# Altium schematic symbol library SCH - MCU - STM32 - ST MICROELECTRONICS STM32F767ZITX LQFP144.SchLib: 1 symbol
Pins are listed as number, name and electrical type; pins without a type are passive.

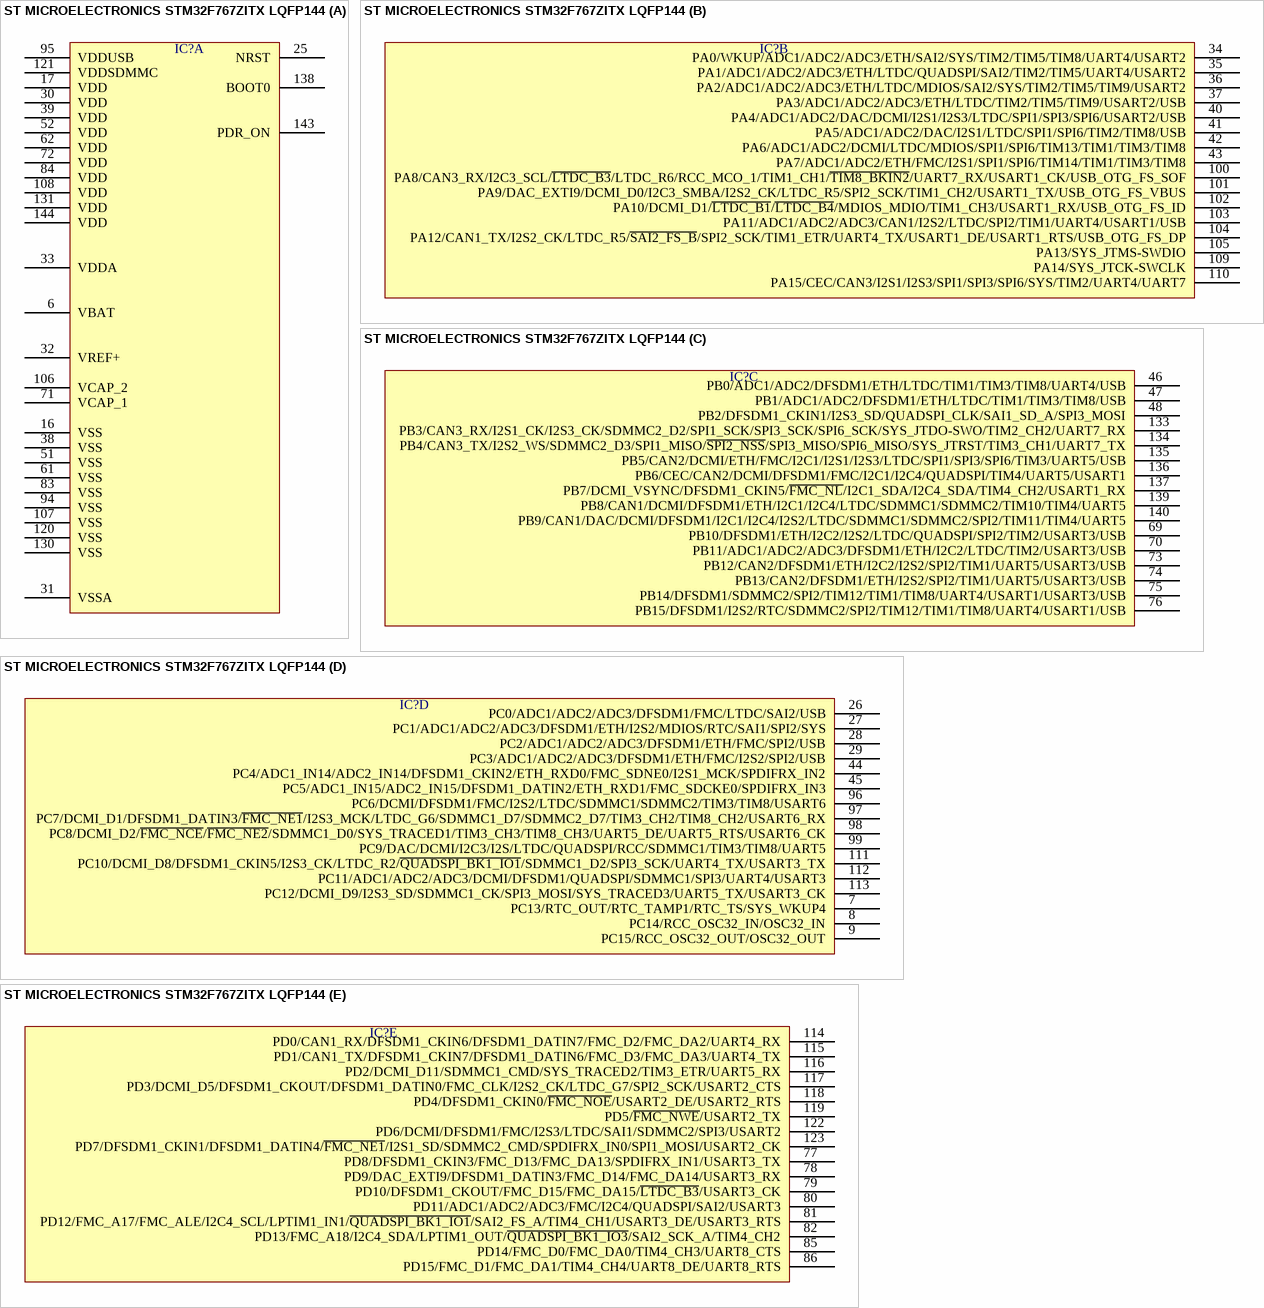
[diagram p0: symbol ST MICROELECTRONICS STM32F767ZITX LQFP144]

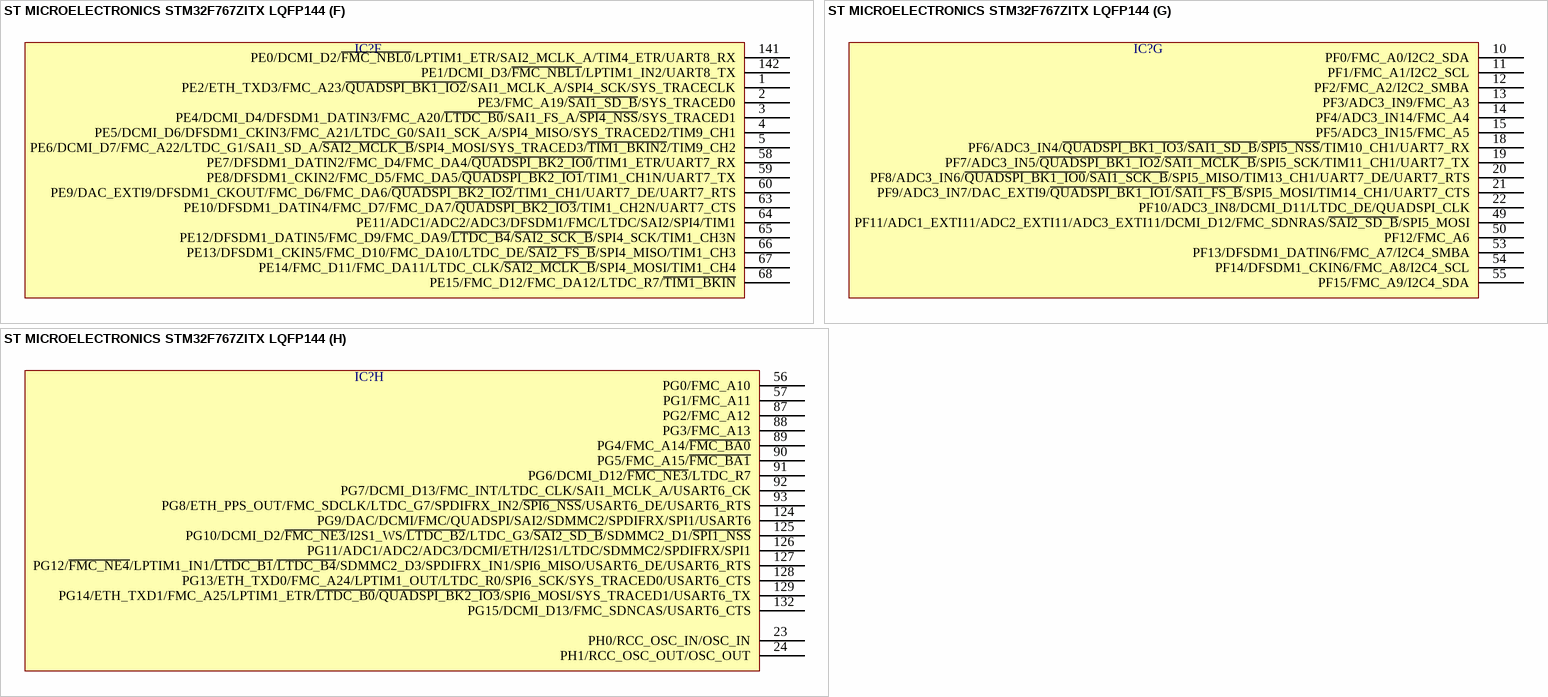
[diagram p1: symbol ST MICROELECTRONICS STM32F767ZITX LQFP144]

## ST MICROELECTRONICS STM32F767ZITX LQFP144
designator IC?  (value not drawn)
part A pins: 6 VBAT, 16 VSS, 17 VDD, 25 NRST, 30 VDD, 31 VSSA, 32 VREF+, 33 VDDA, 38 VSS, 39 VDD, 51 VSS, 52 VDD, 61 VSS, 62 VDD, 71 VCAP_1, 72 VDD, 83 VSS, 84 VDD, 94 VSS, 95 VDDUSB, 106 VCAP_2, 107 VSS, 108 VDD, 120 VSS, 121 VDDSDMMC, 130 VSS, 131 VDD, 138 BOOT0, 143 PDR_ON, 144 VDD
part B pins: 34 PA0/WKUP/ADC1/ADC2/ADC3/ETH/SAI2/SYS/TIM2/TIM5/TIM8/UART4/USART2, 35 PA1/ADC1/ADC2/ADC3/ETH/LTDC/QUADSPI/SAI2/TIM2/TIM5/UART4/USART2, 36 PA2/ADC1/ADC2/ADC3/ETH/LTDC/MDIOS/SAI2/SYS/TIM2/TIM5/TIM9/USART2, 37 PA3/ADC1/ADC2/ADC3/ETH/LTDC/TIM2/TIM5/TIM9/USART2/USB, 40 PA4/ADC1/ADC2/DAC/DCMI/I2S1/I2S3/LTDC/SPI1/SPI3/SPI6/USART2/USB, 41 PA5/ADC1/ADC2/DAC/I2S1/LTDC/SPI1/SPI6/TIM2/TIM8/USB, 42 PA6/ADC1/ADC2/DCMI/LTDC/MDIOS/SPI1/SPI6/TIM13/TIM1/TIM3/TIM8, 43 PA7/ADC1/ADC2/ETH/FMC/I2S1/SPI1/SPI6/TIM14/TIM1/TIM3/TIM8, 100 PA8/CAN3_RX/I2C3_SCL/~{LTDC_B3}/LTDC_R6/RCC_MCO_1/TIM1_CH1/~{TIM8_BKIN2}/UART7_RX/USART1_CK/USB_OTG_FS_SOF, 101 PA9/DAC_EXTI9/DCMI_D0/I2C3_SMBA/I2S2_CK/LTDC_R5/SPI2_SCK/TIM1_CH2/USART1_TX/USB_OTG_FS_VBUS, 102 PA10/DCMI_D1/~{LTDC_B1}/~{LTDC_B4}/MDIOS_MDIO/TIM1_CH3/USART1_RX/USB_OTG_FS_ID, 103 PA11/ADC1/ADC2/ADC3/CAN1/I2S2/LTDC/SPI2/TIM1/UART4/USART1/USB, 104 PA12/CAN1_TX/I2S2_CK/LTDC_R5/~{SAI2_FS_B}/SPI2_SCK/TIM1_ETR/UART4_TX/USART1_DE/USART1_RTS/USB_OTG_FS_DP, 105 PA13/SYS_JTMS-SWDIO, 109 PA14/SYS_JTCK-SWCLK, 110 PA15/CEC/CAN3/I2S1/I2S3/SPI1/SPI3/SPI6/SYS/TIM2/UART4/UART7
part C pins: 46 PB0/ADC1/ADC2/DFSDM1/ETH/LTDC/TIM1/TIM3/TIM8/UART4/USB, 47 PB1/ADC1/ADC2/DFSDM1/ETH/LTDC/TIM1/TIM3/TIM8/USB, 48 PB2/DFSDM1_CKIN1/I2S3_SD/QUADSPI_CLK/SAI1_SD_A/SPI3_MOSI, 69 PB10/DFSDM1/ETH/I2C2/I2S2/LTDC/QUADSPI/SPI2/TIM2/USART3/USB, 70 PB11/ADC1/ADC2/ADC3/DFSDM1/ETH/I2C2/LTDC/TIM2/USART3/USB, 73 PB12/CAN2/DFSDM1/ETH/I2C2/I2S2/SPI2/TIM1/UART5/USART3/USB, 74 PB13/CAN2/DFSDM1/ETH/I2S2/SPI2/TIM1/UART5/USART3/USB, 75 PB14/DFSDM1/SDMMC2/SPI2/TIM12/TIM1/TIM8/UART4/USART1/USART3/USB, 76 PB15/DFSDM1/I2S2/RTC/SDMMC2/SPI2/TIM12/TIM1/TIM8/UART4/USART1/USB, 133 PB3/CAN3_RX/I2S1_CK/I2S3_CK/SDMMC2_D2/SPI1_SCK/SPI3_SCK/SPI6_SCK/SYS_JTDO-SWO/TIM2_CH2/UART7_RX, 134 PB4/CAN3_TX/I2S2_WS/SDMMC2_D3/SPI1_MISO/~{SPI2_NSS}/SPI3_MISO/SPI6_MISO/SYS_JTRST/TIM3_CH1/UART7_TX, 135 PB5/CAN2/DCMI/ETH/FMC/I2C1/I2S1/I2S3/LTDC/SPI1/SPI3/SPI6/TIM3/UART5/USB, 136 PB6/CEC/CAN2/DCMI/DFSDM1/FMC/I2C1/I2C4/QUADSPI/TIM4/UART5/USART1, 137 PB7/DCMI_VSYNC/DFSDM1_CKIN5/~{FMC_NL}/I2C1_SDA/I2C4_SDA/TIM4_CH2/USART1_RX, 139 PB8/CAN1/DCMI/DFSDM1/ETH/I2C1/I2C4/LTDC/SDMMC1/SDMMC2/TIM10/TIM4/UART5, 140 PB9/CAN1/DAC/DCMI/DFSDM1/I2C1/I2C4/I2S2/LTDC/SDMMC1/SDMMC2/SPI2/TIM11/TIM4/UART5
part D pins: 7 PC13/RTC_OUT/RTC_TAMP1/RTC_TS/SYS_WKUP4, 8 PC14/RCC_OSC32_IN/OSC32_IN, 9 PC15/RCC_OSC32_OUT/OSC32_OUT, 26 PC0/ADC1/ADC2/ADC3/DFSDM1/FMC/LTDC/SAI2/USB, 27 PC1/ADC1/ADC2/ADC3/DFSDM1/ETH/I2S2/MDIOS/RTC/SAI1/SPI2/SYS, 28 PC2/ADC1/ADC2/ADC3/DFSDM1/ETH/FMC/SPI2/USB, 29 PC3/ADC1/ADC2/ADC3/DFSDM1/ETH/FMC/I2S2/SPI2/USB, 44 PC4/ADC1_IN14/ADC2_IN14/DFSDM1_CKIN2/ETH_RXD0/FMC_SDNE0/I2S1_MCK/SPDIFRX_IN2, 45 PC5/ADC1_IN15/ADC2_IN15/DFSDM1_DATIN2/ETH_RXD1/FMC_SDCKE0/SPDIFRX_IN3, 96 PC6/DCMI/DFSDM1/FMC/I2S2/LTDC/SDMMC1/SDMMC2/TIM3/TIM8/USART6, 97 PC7/DCMI_D1/DFSDM1_DATIN3/~{FMC_NE1}/I2S3_MCK/LTDC_G6/SDMMC1_D7/SDMMC2_D7/TIM3_CH2/TIM8_CH2/USART6_RX, 98 PC8/DCMI_D2/~{FMC_NCE}/~{FMC_NE2}/SDMMC1_D0/SYS_TRACED1/TIM3_CH3/TIM8_CH3/UART5_DE/UART5_RTS/USART6_CK, 99 PC9/DAC/DCMI/I2C3/I2S/LTDC/QUADSPI/RCC/SDMMC1/TIM3/TIM8/UART5, 111 PC10/DCMI_D8/DFSDM1_CKIN5/I2S3_CK/LTDC_R2/~{QUADSPI_BK1_IO1}/SDMMC1_D2/SPI3_SCK/UART4_TX/USART3_TX, 112 PC11/ADC1/ADC2/ADC3/DCMI/DFSDM1/QUADSPI/SDMMC1/SPI3/UART4/USART3, 113 PC12/DCMI_D9/I2S3_SD/SDMMC1_CK/SPI3_MOSI/SYS_TRACED3/UART5_TX/USART3_CK
part E pins: 77 PD8/DFSDM1_CKIN3/FMC_D13/FMC_DA13/SPDIFRX_IN1/USART3_TX, 78 PD9/DAC_EXTI9/DFSDM1_DATIN3/FMC_D14/FMC_DA14/USART3_RX, 79 PD10/DFSDM1_CKOUT/FMC_D15/FMC_DA15/~{LTDC_B3}/USART3_CK, 80 PD11/ADC1/ADC2/ADC3/FMC/I2C4/QUADSPI/SAI2/USART3, 81 PD12/FMC_A17/FMC_ALE/I2C4_SCL/LPTIM1_IN1/~{QUADSPI_BK1_IO1}/SAI2_FS_A/TIM4_CH1/USART3_DE/USART3_RTS, 82 PD13/FMC_A18/I2C4_SDA/LPTIM1_OUT/~{QUADSPI_BK1_IO3}/SAI2_SCK_A/TIM4_CH2, 85 PD14/FMC_D0/FMC_DA0/TIM4_CH3/UART8_CTS, 86 PD15/FMC_D1/FMC_DA1/TIM4_CH4/UART8_DE/UART8_RTS, 114 PD0/CAN1_RX/DFSDM1_CKIN6/DFSDM1_DATIN7/FMC_D2/FMC_DA2/UART4_RX, 115 PD1/CAN1_TX/DFSDM1_CKIN7/DFSDM1_DATIN6/FMC_D3/FMC_DA3/UART4_TX, 116 PD2/DCMI_D11/SDMMC1_CMD/SYS_TRACED2/TIM3_ETR/UART5_RX, 117 PD3/DCMI_D5/DFSDM1_CKOUT/DFSDM1_DATIN0/FMC_CLK/I2S2_CK/LTDC_G7/SPI2_SCK/USART2_CTS, 118 PD4/DFSDM1_CKIN0/~{FMC_NOE}/USART2_DE/USART2_RTS, 119 PD5/~{FMC_NWE}/USART2_TX, 122 PD6/DCMI/DFSDM1/FMC/I2S3/LTDC/SAI1/SDMMC2/SPI3/USART2, 123 PD7/DFSDM1_CKIN1/DFSDM1_DATIN4/~{FMC_NE1}/I2S1_SD/SDMMC2_CMD/SPDIFRX_IN0/SPI1_MOSI/USART2_CK
part F pins: 1 PE2/ETH_TXD3/FMC_A23/~{QUADSPI_BK1_IO2}/SAI1_MCLK_A/SPI4_SCK/SYS_TRACECLK, 2 PE3/FMC_A19/~{SAI1_SD_B}/SYS_TRACED0, 3 PE4/DCMI_D4/DFSDM1_DATIN3/FMC_A20/~{LTDC_B0}/SAI1_FS_A/~{SPI4_NSS}/SYS_TRACED1, 4 PE5/DCMI_D6/DFSDM1_CKIN3/FMC_A21/LTDC_G0/SAI1_SCK_A/SPI4_MISO/SYS_TRACED2/TIM9_CH1, 5 PE6/DCMI_D7/FMC_A22/LTDC_G1/SAI1_SD_A/~{SAI2_MCLK_B}/SPI4_MOSI/SYS_TRACED3/~{TIM1_BKIN2}/TIM9_CH2, 58 PE7/DFSDM1_DATIN2/FMC_D4/FMC_DA4/~{QUADSPI_BK2_IO0}/TIM1_ETR/UART7_RX, 59 PE8/DFSDM1_CKIN2/FMC_D5/FMC_DA5/~{QUADSPI_BK2_IO1}/TIM1_CH1N/UART7_TX, 60 PE9/DAC_EXTI9/DFSDM1_CKOUT/FMC_D6/FMC_DA6/~{QUADSPI_BK2_IO2}/TIM1_CH1/UART7_DE/UART7_RTS, 63 PE10/DFSDM1_DATIN4/FMC_D7/FMC_DA7/~{QUADSPI_BK2_IO3}/TIM1_CH2N/UART7_CTS, 64 PE11/ADC1/ADC2/ADC3/DFSDM1/FMC/LTDC/SAI2/SPI4/TIM1, 65 PE12/DFSDM1_DATIN5/FMC_D9/FMC_DA9/~{LTDC_B4}/~{SAI2_SCK_B}/SPI4_SCK/TIM1_CH3N, 66 PE13/DFSDM1_CKIN5/FMC_D10/FMC_DA10/LTDC_DE/~{SAI2_FS_B}/SPI4_MISO/TIM1_CH3, 67 PE14/FMC_D11/FMC_DA11/LTDC_CLK/~{SAI2_MCLK_B}/SPI4_MOSI/TIM1_CH4, 68 PE15/FMC_D12/FMC_DA12/LTDC_R7/~{TIM1_BKIN}, 141 PE0/DCMI_D2/~{FMC_NBL0}/LPTIM1_ETR/SAI2_MCLK_A/TIM4_ETR/UART8_RX, 142 PE1/DCMI_D3/~{FMC_NBL1}/LPTIM1_IN2/UART8_TX
part G pins: 10 PF0/FMC_A0/I2C2_SDA, 11 PF1/FMC_A1/I2C2_SCL, 12 PF2/FMC_A2/I2C2_SMBA, 13 PF3/ADC3_IN9/FMC_A3, 14 PF4/ADC3_IN14/FMC_A4, 15 PF5/ADC3_IN15/FMC_A5, 18 PF6/ADC3_IN4/~{QUADSPI_BK1_IO3}/~{SAI1_SD_B}/~{SPI5_NSS}/TIM10_CH1/UART7_RX, 19 PF7/ADC3_IN5/~{QUADSPI_BK1_IO2}/~{SAI1_MCLK_B}/SPI5_SCK/TIM11_CH1/UART7_TX, 20 PF8/ADC3_IN6/~{QUADSPI_BK1_IO0}/~{SAI1_SCK_B}/SPI5_MISO/TIM13_CH1/UART7_DE/UART7_RTS, 21 PF9/ADC3_IN7/DAC_EXTI9/~{QUADSPI_BK1_IO1}/~{SAI1_FS_B}/SPI5_MOSI/TIM14_CH1/UART7_CTS, 22 PF10/ADC3_IN8/DCMI_D11/LTDC_DE/QUADSPI_CLK, 49 PF11/ADC1_EXTI11/ADC2_EXTI11/ADC3_EXTI11/DCMI_D12/FMC_SDNRAS/~{SAI2_SD_B}/SPI5_MOSI, 50 PF12/FMC_A6, 53 PF13/DFSDM1_DATIN6/FMC_A7/I2C4_SMBA, 54 PF14/DFSDM1_CKIN6/FMC_A8/I2C4_SCL, 55 PF15/FMC_A9/I2C4_SDA
part H pins: 23 PH0/RCC_OSC_IN/OSC_IN, 24 PH1/RCC_OSC_OUT/OSC_OUT, 56 PG0/FMC_A10, 57 PG1/FMC_A11, 87 PG2/FMC_A12, 88 PG3/FMC_A13, 89 PG4/FMC_A14/~{FMC_BA0}, 90 PG5/FMC_A15/~{FMC_BA1}, 91 PG6/DCMI_D12/~{FMC_NE3}/LTDC_R7, 92 PG7/DCMI_D13/FMC_INT/LTDC_CLK/SAI1_MCLK_A/USART6_CK, 93 PG8/ETH_PPS_OUT/FMC_SDCLK/LTDC_G7/SPDIFRX_IN2/~{SPI6_NSS}/USART6_DE/USART6_RTS, 124 PG9/DAC/DCMI/FMC/QUADSPI/SAI2/SDMMC2/SPDIFRX/SPI1/USART6, 125 PG10/DCMI_D2/~{FMC_NE3}/I2S1_WS/~{LTDC_B2}/LTDC_G3/~{SAI2_SD_B}/SDMMC2_D1/~{SPI1_NSS}, 126 PG11/ADC1/ADC2/ADC3/DCMI/ETH/I2S1/LTDC/SDMMC2/SPDIFRX/SPI1, 127 PG12/~{FMC_NE4}/LPTIM1_IN1/~{LTDC_B1}/~{LTDC_B4}/SDMMC2_D3/SPDIFRX_IN1/SPI6_MISO/USART6_DE/USART6_RTS, 128 PG13/ETH_TXD0/FMC_A24/LPTIM1_OUT/LTDC_R0/SPI6_SCK/SYS_TRACED0/USART6_CTS, 129 PG14/ETH_TXD1/FMC_A25/LPTIM1_ETR/~{LTDC_B0}/~{QUADSPI_BK2_IO3}/SPI6_MOSI/SYS_TRACED1/USART6_TX, 132 PG15/DCMI_D13/FMC_SDNCAS/USART6_CTS